# EAGLE library part 12_PIN_RIBBON_CONNECTOR (library thanics_robotics)
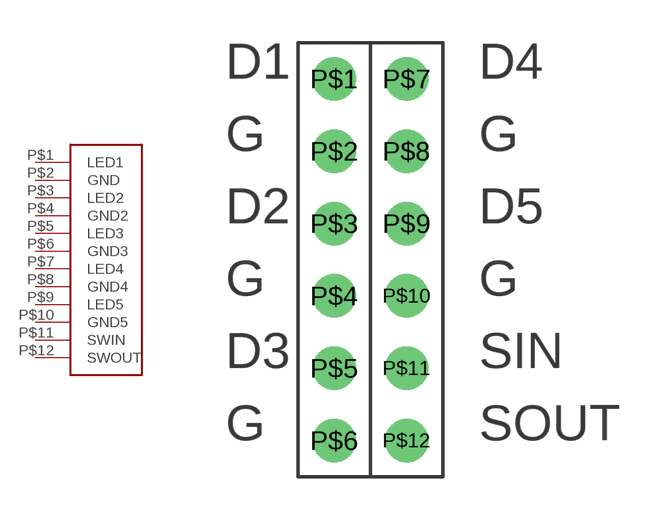
[diagram p9: symbol with the pads of 12_PIN_RIBBON_CONNECTOR; footprint 12_PIN_RIBBON_CONNECTOR]

Designator prefix -

## 12_PIN_RIBBON_CONNECTOR  [12_PIN_RIBBON_CONNECTOR]
P$1  LED1
P$2  GND
P$3  LED2
P$4  GND2
P$5  LED3
P$6  GND3
P$7  LED4
P$8  GND4
P$9  LED5
P$10  GND5
P$11  SWIN
P$12  SWOUT

## Footprint 12_PIN_RIBBON_CONNECTOR (pad centres in mm)
drill 0.87 pad 1.524: P$1 -1.27,6.35; P$2 -1.27,3.81; P$3 -1.27,1.27; P$4 -1.27,-1.27; P$5 -1.27,-3.81; P$6 -1.27,-6.35; P$7 1.27,6.35; P$8 1.27,3.81; P$9 1.27,1.27; P$10 1.27,-1.27; P$11 1.27,-3.81; P$12 1.27,-6.35